# Altium schematic symbol library NXP Semiconductors Cortex-M4.SchLib: 12 symbols (part 3 of 3)
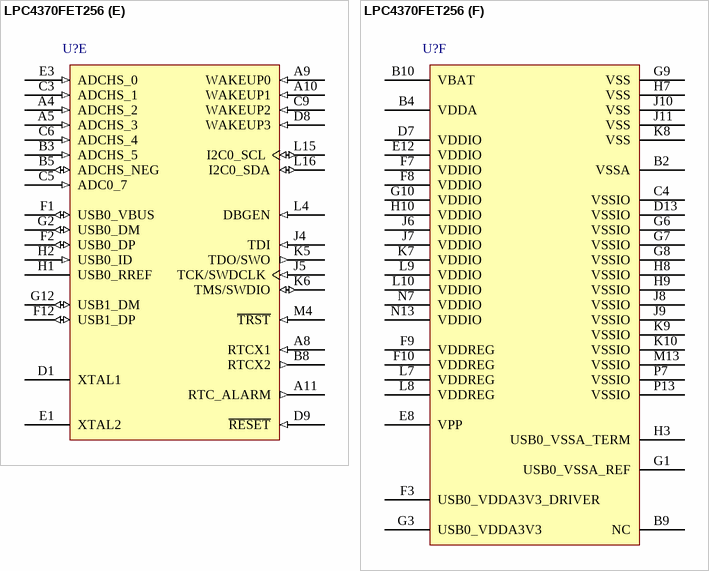
[diagram p14: symbol LPC4370FET256]

## LPC4370FET256
designator U?
32-bit ARM Cortex-M4 + 2 x M0 MCU, 282 kB SRAM, Ethernet, Two HS USBs, 80 Msps 12-bit ADC, Configurable Peripherals, -40 to 85 degC, 256-Pin LBGA (SOT740-2), Pb-Free, Tray; Manufacturer: NXP Semiconductors; Fmax: 204 MHz; SRAM: 282 kB; Ethernet: 1; USB: 2; Number of I/O: 164; Pb-Free: TRUE; DatasheetVersion: Rev. 2; PackageVersion: 38565; PackageReference: SOT740-2; PackageDescription: 256-Ball Ball Grid Array , Body 17 x 17 mm, Pitch 1 mm; Core: Cortex-M4; LCD: 1; CAN: 2; Junction Temperature: -40 to 85 degC; Packing: Tray; Mounting Technology: Surface Mount; ComponentLink1Description: Manufacturer URL; ComponentLink1URL: http://www.nxp.com/; ComponentLink2Description: Datasheet; ComponentLink2URL: http://www.nxp.com/documents/data_sheet/LPC4370.pdf; ComponentLink3Description: Package Specification; ComponentLink3URL: http://www.nxp.com/documents/outline_drawing/sot740-2_po.pdf
footprint SOT740-2 (BGA, 256-Leads, Body 17x17mm, Pitch 1mm)
part A pins: A1 P4_1/GPIO2[1]/CTOUT_1/LCD_VD0/LCD_VD19/U3_TXD/ENET_COL/ADC0_1  (io), A15 P3_4/GPIO1[14]/SPIFI_SIO3/U1_TXD/I2S0_TX_WS/I2S1_RX_SDA/LCD_VD13 (io), B1 P4_4/GPIO2[4]/CTOUT_2/LCD_VD1/LCD_VD20/U3_DIR/SGPIO10/DAC (io), B13 P3_6/GPIO0[6]/SPI_MISO/SSP0_SSEL/SPIFI_MISO/SSP0_MISO (io), B14 P3_3/SPI_SCK/SSP0_SCK/SPIFI_SCK/CGU_OUT1/I2S0_TX_MCLK/I2S1_TX_SCK (io), C1 P4_6/GPIO2[6]/CTOUT_4/LCD_ENAB/LCDM/SGPIO12 (io), C2 P4_3/GPIO2[3]/CTOUT_3/LCD_VD2/LCD_VD21/U3_BAUD/SGPIO9/ADC0_0 (io), C10 P3_8/SPI_SSEL/SSP0_MOSI/SPIFI_CS/GPIO5[11]/SSP0_SSEL (io), C11 P3_7/SPI_MOSI/SSP0_MISO/SPIFI_MOSI/GPIO5[10]/SSP0_MOSI (io), C12 P3_5/GPIO1[15]/SPIFI_SIO2/U1_RXD/I2S0_TX_SDA/I2S1_RX_WS/LCD_VD12 (io), C16 P2_13/GPIO1[13]/CTIN_4/EMC_A4/U2_DIR (io), D2 P4_5/GPIO2[5]/CTOUT_5/LCD_FP/SGPIO11 (io), D3 P4_2/GPIO2[2]/CTOUT_0/LCD_VD3/LCD_VD12/U3_RXD/SGPIO8 (io), D5 P4_0/GPIO2[0]/MCOA0/NMI/LCD_VD13/U3_UCLK (io), E2 P4_8/CTIN_5/LCD_VD9/GPIO5[12]/LCD_VD22/CAN1_TD/SGPIO13 (io), E15 P2_12/GPIO1[12]/CTOUT_4/EMC_A3/U2_UCLK (io), F11 P3_2/I2S0_TX_SDA/I2S0_RX_SDA/CAN0_TD/USB1_IND0/GPIO5[9]/LCD_VD14 (io), F13 P3_0/I2S0_RX_SCK/I2S0_RX_MCLK/I2S0_TX_SCK/I2S0_TX_MCLK/SSP0_SCK (io), F16 P2_11/GPIO1[11]/CTOUT_5/U2_RXD/EMC_A2 (io), G11 P3_1/I2S0_TX_WS/I2S0_RX_WS/CAN0_RD/USB1_IND1/GPIO5[8]/LCD_VD15 (io), G16 P2_10/GPIO0[14]/CTOUT_2/U2_TXD/EMC_A1 (io), H4 P4_7/LCD_DCLK/GP_CLKIN/I2S1_TX_SCK/I2S0_TX_SCK (io), H14 P2_7/GPIO0[7]/CTOUT_1/U3_UCLK/EMC_A9/T3_MAT3 (io), H16 P2_9/GPIO1[10]/CTOUT_3/U3_BAUD/EMC_A0 (io), J12 P2_3/SGPIO12/I2C1_SDA/U3_TXD/CTIN_1/GPIO5[3]/T3_MAT0/USB0_PWR_EN (io), J16 P2_8/SGPIO15/CTOUT_0/U3_DIR/EMC_A8/GPIO5[7] (io), K11 P2_4/SGPIO13/I2C1_SCL/U3_RXD/CTIN_0/GPIO5[4]/T3_MAT1/USB0_PWR_FAULT (io), K14 P2_5/SGPIO14/CTIN_2/USB1_VBUS/ADCTRIG1/GPIO5[5]/T3_MAT2/USB0_IND0 (io), K16 P2_6/SGPIO7/U0_DIR/EMC_A10/USB0_IND0/GPIO5[6]/CTIN_7/T3_CAP3 (io), L2 P4_9/CTIN_6/LCD_VD11/GPIO5[13]/LCD_VD15/CAN1_RD/SGPIO14 (io), L3 P0_0/GPIO0[0]/SSP1_MISO/ENET_RXD1/SGPIO0/I2S0_TX_WS/I2S1_TX_WS (io), M2 P0_1/GPIO0[1]/SSP1_MOSI/ENET_COL/SGPIO1/ENET_TX_EN/I2S1_TX_SDA (io), M3 P4_10/CTIN_2/LCD_VD10/GPIO5[14]/LCD_VD14/SGPIO15 (io), M7 P1_16/GPIO0[3]/U2_RXD/SGPIO3/ENET_CRS/T0_MAT0/ENET_RX_DV (io), M8 P1_17/GPIO0[12]/U2_UCLK/ENET_MDIO/T0_CAP3/CAN1_TD/SGPIO11 (io), M10 P1_20/GPIO0[15]/SSP1_SSEL/ENET_TXD1/T0_CAP2/SGPIO13  (io), M11 P1_19/ENET_TX_CLK (ENET_REF_CLK)/SSP1_SCK/CLKOUT/I2S0_RX_MCLK/I2S1_TX_SCK (io), M15 P2_2/SGPIO6/U0_UCLK/EMC_A11/USB0_IND1/GPIO5[2]/CTIN_6/T3_CAP2 (io), N12 P1_18/GPIO0[13]/U2_DIR/ENET_TXD0/T0_MAT3/CAN1_RD/SGPIO12 (io), N15 P2_1/SGPIO5/U0_RXD/EMC_A12/USB0_PWR_FAULT/GPIO5[1]/T3_CAP1 (io), P2 P1_0/GPIO0[4]/CTIN_3/EMC_A5/SSP0_SSEL/SGPIO7 (io), P5 P1_3/GPIO0[10]/CTOUT_8/SGPIO10/~{EMC_OE}/USB0_IND1/SSP1_MISO/SD_RST (io), R2 P1_1/GPIO0[8]/CTOUT_7/EMC_A6/SGPIO8/SSP0_MISO (io), R3 P1_2/GPIO0[9] /CTOUT_6/EMC_A7/SGPIO9/SSP0_MOSI (io), R5 P1_5/GPIO1[8]/CTOUT_10/~{EMC_CS0}/USB0_PWR_FAULT/SSP1_SSEL/SGPIO15/SD_POW (io), R7 P1_8/GPIO1[1]/U1_DTR/CTOUT_12/EMC_D1/SD_VOLT0 (io), R8 P1_10/GPIO1[3]/U1_RI/CTOUT_14/EMC_D3/SD_DAT1 (io), R9 P1_12/GPIO1[5]/U1_DCD/EMC_D5/T0_CAP1/SGPIO8/SD_DAT3 (io), R10 P1_13/GPIO1[6]/U1_TXD/EMC_D6/T0_CAP0/SGPIO9/SD_CD (io), R11 P1_14/GPIO1[7]/U1_RXD/EMC_D7/T0_MAT2/SGPIO10 (io), T3 P1_4/GPIO0[11] /CTOUT_9/SGPIO11/~{EMC_BLS0}/USB0_IND0/SSP1_MOSI/SD_VOLT1 (io), T4 P1_6/GPIO1[9]/CTIN_5/~{EMC_WE}/SGPIO14/SD_CMD (io), T5 P1_7/GPIO1[0]/U1_DSR/CTOUT_13/EMC_D0/USB0_PPWR (io), T7 P1_9/GPIO1[2]/U1_RTS/CTOUT_11/EMC_D2/SD_DAT0  (io), T9 P1_11/GPIO1[4]/U1_CTS/CTOUT_15/EMC_D4/SD_DAT2 (io), T12 P1_15/GPIO0[2]/U2_TXD/SGPIO2/ENET_RXD0/T0_MAT1 (io), T16 P2_0/SGPIO4/U0_TXD/EMC_A13/USB0_PPWR/GPIO5[0]/T3_CAP0/ENET_MDC (io)
part B pins: A7 P7_5/GPIO3[13]/CTOUT_12/LCD_VD8/LCD_VD23/TRACEDATA[1]/ADC0_3  (io), A16 P7_2/GPIO3[10]/CTIN_4/I2S0_TX_SDA/LCD_VD18/LCD_VD6/U2_RXD/SGPIO6 (io), B6 P7_7/GPIO3[15]/CTOUT_8/LCD_PWR/TRACEDATA[3]/ENET_MDC/SGPIO7/ADC1_6 (io), B16 P7_0/GPIO3[8]/CTOUT_14/LCD_LE/SGPIO4 (io), C7 P7_6/GPIO3[14]/CTOUT_11/LCD_LP/TRACEDATA[2] (io), C8 P7_4/GPIO3[12]/CTOUT_13/LCD_VD16/LCD_VD4/TRACEDATA[0]/ADC0_4  (io), C13 P7_3/GPIO3[11]/CTIN_3/LCD_VD17/LCD_VD5 (io), C14 P7_1/GPIO3[9]/CTOUT_15/I2S0_TX_WS/LCD_VD19/LCD_VD7/U2_TXD/SGPIO5  (io), E5 P8_0/GPIO4[0]/USB0_PWR_FAULT/MCI2/SGPIO8/T0_MAT0 (io), G13 PA_4/CTOUT_9/EMC_A23/GPIO5[19] (io), G15 P6_12/GPIO2[8]/CTOUT_7/EMC_DQMOUT0 (io), H5 P8_1/GPIO4[1]/USB0_IND1/MCI1/SGPIO9/T0_MAT1 (io), H11 PA_3/GPIO4[10]/QEI_PHA (io), H12 P6_11/GPIO3[7]/EMC_CKEOUT0/T2_MAT3  (io), H13 P6_8/EMC_A14/SGPIO7/USB0_IND0/GPIO5[16]/T2_MAT1 (io), H15 P6_10/GPIO3[6]/~{MCABORT}/EMC_DQMOUT1 (io), J1 P8_5/GPIO4[5]/USB1_ULPI_D0/LCD_VD6/LCD_VD8/T0_CAP1 (io), J2 P8_4/GPIO4[4]/USB1_ULPI_D1/LCD_VD7/LCD_VD16/T0_CAP0 (io), J3 P8_3/GPIO4[3]/USB1_ULPI_D2/LCD_VD12/LCD_VD19/T0_MAT3 (io), J13 P6_7/EMC_A15/SGPIO6/USB0_IND1/GPIO5[15]/T2_MAT0  (io), J14 PA_1/GPIO4[8]/QEI_IDX/U2_TXD  (io), J15 P6_9/GPIO3[5]/~{EMC_DYCS0}/T2_MAT2 (io), K1 P8_7/GPIO4[7]/USB1_ULPI_STP/LCD_VD4/LCD_PWR/T0_CAP3  (io), K3 P8_6/GPIO4[6]/USB1_ULPI_NXT/LCD_VD5/LCD_LP/T0_CAP2 (io), K4 P8_2/GPIO4[2]/USB0_IND0/MCI0/SGPIO10/T0_MAT2 (io), K15 PA_2/GPIO4[9]/QEI_PHB/U2_RXD (io), L1 P8_8/USB1_ULPI_CLK/CGU_OUT0 /I2S1_TX_MCLK (io), L11 P9_6/GPIO4[11]/MCOB1/USB1_PWR_FAULT/ENET_COL/SGPIO8/U0_RXD (io), L12 PA_0/I2S1_RX_MCLK/CGU_OUT1 (io), L13 P6_2/GPIO3[1]/EMC_CKEOUT1/U0_DIR/I2S0_RX_SDA/T2_CAP1 (io), L14 P6_6/GPIO0[5]/~{EMC_BLS1}/SGPIO5/USB0_PWR_FAULT/T2_CAP3 (io), M6 P9_3/GPIO4[15]/MCOA0/USB1_IND1/ENET_RXD2/SGPIO9/U3_TXD  (io), M9 P9_5/MCOA1/USB1_VBUS_EN/GPIO5[18]/ENET_TXD3/SGPIO3/U0_TXD (io), M12 P6_0/I2S0_RX_MCLK/I2S0_RX_SCK (io), N3 P5_0/GPIO2[9]/MCOB2/EMC_D12/U1_DSR/T1_CAP0 (io), N6 P9_1/GPIO4[13]/MCOA2/I2S0_TX_WS/ENET_RX_ER/SGPIO1/SSP0_MISO (io), N8 P9_2/GPIO4[14]/MCOB2/I2S0_TX_SDA/ENET_RXD3/SGPIO2/SSP0_MOSI (io), N10 P9_4/MCOB0/USB1_IND0/GPIO5[17]/ENET_TXD2/SGPIO4/U3_RXD (io), P3 P5_1/GPIO2[10]/MCI2/EMC_D13/U1_DTR/T1_CAP1 (io), P9 P5_4/GPIO2[13]/MCOB0/EMC_D8/U1_CTS/T1_MAT0 (io), P10 P5_5/GPIO2[14]/MCOA1/EMC_D9/U1_DCD/T1_MAT1 (io), P15 P6_3/GPIO3[2]/USB0_PWR_EN/SGPIO4/~{EMC_CS1}/T2_CAP2  (io), P16 P6_5/GPIO3[4]/CTOUT_6/U0_RXD/~{EMC_RAS} (io), R4 P5_2/GPIO2[11]/MCI1/EMC_D14/U1_RTS/T1_CAP2 (io), R12 P5_7/GPIO2[7]/MCOA2/EMC_D11/U1_RXD/T1_MAT3  (io), R15 P6_1/GPIO3[0]/~{EMC_DYCS1}/U0_UCLK/I2S0_RX_WS/T2_CAP0  (io), R16 P6_4/GPIO3[3]/CTIN_6/U0_TXD/~{EMC_CAS} (io), T1 P9_0/GPIO4[12]/~{MCABORT}/ENET_CRS/SGPIO0/SSP0_SSEL (io), T8 P5_3/GPIO2[12]/MCI0/EMC_D15/U1_RI/T1_CAP3 (io), T13 P5_6/GPIO2[15]/MCOB1/EMC_D10/U1_TXD/T1_MAT2 (io)
part C pins: A2 PF_11/U0_RXD/GPIO7[25]/SD_VOLT2/ADC1_5 (io), A3 PF_10/U0_TXD/GPIO7[24]/SD_WP/ADC0_5 (io), A6 PB_6/USB1_ULPI_D3/LCD_VD13/GPIO5[26]/CTIN_6/LCD_VD19/ADC0_6 (io), A12 PB_5/USB1_ULPI_D4/LCD_VD14/GPIO5[25]/CTIN_7/LCD_PWR (io), A13 PB_3/USB1_ULPI_D6/LCD_VD20/GPIO5[23]/CTOUT_8 (io), A14 PB_1/USB1_ULPI_DIR/LCD_VD22/GPIO5[21]/CTOUT_6 (io), B7 PF_7/U3_BAUD/SSP1_MOSI/TRACEDATA[2]/GPIO7[21]/SGPIO6/I2S1_TX_WS/ADC1_7  (io), B11 PB_4/USB1_ULPI_D5/LCD_VD15/GPIO5[24]/CTIN_5 (io), B12 PB_2/USB1_ULPI_D7/LCD_VD21/GPIO5[22]/CTOUT_7 (io), B15 PB_0/CTOUT_10/LCD_VD23/GPIO5[20] (io), C15 PE_14/~{EMC_DYCS3}/GPIO7[14] (io), D4 PC_0/USB1_ULPI_CLK/ENET_RX_CLK/LCD_DCLK /SD_CLK/ADC1_1 (io), D6 PF_9/U0_DIR/CTOUT_1/GPIO7[23]/SGPIO3/ADC1_2 (io), D10 PF_4/SSP1_SCK/GP_CLKIN/TRACECLK/I2S0_TX_MCLK/I2S0_RX_SCK (io), D11 PF_2/U3_TXD/SSP0_MISO/GPIO7[17]/SGPIO1 (io), D12 PF_0/SSP0_SCK/GP_CLKIN/I2S1_TX_MCLK (io), D15 PE_12/CTOUT_11/U1_RXD/EMC_D31/GPIO7[12] (io), D16 PE_11/CTOUT_12/U1_TXD/EMC_D30/GPIO7[11]  (io), E4 PC_1/USB1_ULPI_D7/U1_RI/ENET_MDC/GPIO6[0]/T3_CAP0/SD_VOLT0 (io), E6 PF_8/U0_UCLK/CTIN_2/TRACEDATA[3]/GPIO7[22]/SGPIO7/ADC0_2 (io), E7 PF_6/U3_DIR/SSP1_MISO/TRACEDATA[1]/GPIO7[20]/SGPIO5/I2S1_TX_SDA/ADC1_3  (io), E9 PF_5/U3_UCLK/SSP1_SSEL/TRACEDATA[0]/GPIO7[19]/SGPIO4/ADC1_4   (io), E10 PF_3/U3_RXD/SSP0_MOSI/GPIO7[18]/SGPIO2  (io), E11 PF_1/SSP0_SSEL/GPIO7[16]/SGPIO0 (io), E13 PE_15/CTOUT_0/I2C1_SCL/EMC_CKEOUT3/GPIO7[15] (io), E14 PE_10/CTIN_3/U1_DTR/EMC_D29/GPIO7[10] (io), E16 PE_9/CTIN_4/U1_DCD/EMC_D28/GPIO7[9] (io), F4 PC_4/USB1_ULPI_D4/ENET_TX_EN/GPIO6[3]/T3_CAP1/SD_DAT0 (io), F5 PC_3/USB1_ULPI_D5/U1_RTS/ENET_TXD3/GPIO6[2]/SD_VOLT1/ADC1_0 (io), F6 PC_2/USB1_ULPI_D6/U1_CTS/ENET_TXD2/GPIO6[1]/SD_RST (io), F14 PE_8/CTOUT_4/U1_DSR/EMC_D27/GPIO7[8] (io), F15 PE_7/CTOUT_5/U1_CTS/EMC_D26/GPIO7[7]  (io), G4 PC_5/USB1_ULPI_D3/ENET_TX_ER/GPIO6[4]/T3_CAP2/SD_DAT1 (io), G5 PC_7/USB1_ULPI_D1/ENET_RXD3/GPIO6[6]/T3_MAT0/SD_DAT3 (io), G14 PE_13/CTOUT_14/I2C1_SDA/EMC_DQMOUT3/GPIO7[13]  (io), H6 PC_6/USB1_ULPI_D2/ENET_RXD2/GPIO6[5]/T3_CAP3/SD_DAT2 (io), K2 PC_9/USB1_ULPI_NXT/ENET_RX_ER/GPIO6[8]/T3_MAT2/SD_POW (io), K12 PE_3/CAN0_TD/ADCTRIG1/EMC_A21/GPIO7[3] (io), K13 PE_4/NMI/EMC_A22/GPIO7[4]  (io), L5 PC_11/USB1_ULPI_DIR/U1_DCD/GPIO6[10]/SD_DAT4 (io), L6 PC_12/U1_DTR/GPIO6[11]/SGPIO11/I2S0_TX_SDA/SD_DAT5  (io), M1 PC_13/U1_TXD/GPIO6[12]/SGPIO12/I2S0_TX_WS/SD_DAT6  (io), M5 PC_10/USB1_ULPI_STP/U1_DSR/GPIO6[9]/T3_MAT3/SD_CMD (io), M14 PE_2/ADCTRIG0/CAN0_RD/EMC_A20/GPIO7[2] (io), M16 PE_6/CTOUT_2/U1_RI/EMC_D25/GPIO7[6] (io), N1 PC_14/U1_RXD/GPIO6[13]/SGPIO13/ENET_TX_ER/SD_DAT7 (io), N2 PD_0/CTOUT_15/EMC_DQMOUT2/GPIO6[14]/SGPIO4 (io), N4 PC_8/USB1_ULPI_D0/ENET_RX_DV/GPIO6[7]/T3_MAT1/SD_CD (io), N9 PD_11/~{EMC_CS3}/GPIO6[25]/USB1_ULPI_D0/CTOUT_14  (io), N11 PD_12/~{EMC_CS2}/GPIO6[26]/CTOUT_10 (io), N14 PE_1/EMC_A19/GPIO7[1]/CAN1_RD  (io), N16 PE_5/CTOUT_3/U1_RTS/EMC_D24/GPIO7[5]  (io), P1 PD_1/EMC_CKEOUT2/GPIO6[15]/SD_POW/SGPIO5 (io), P4 PD_3/CTOUT_6/EMC_D17/GPIO6[17]/SGPIO7 (io), P6 PD_5/CTOUT_9/EMC_D19/GPIO6[19]/SGPIO9 (io), P8 PD_8/CTIN_6/EMC_D22/GPIO6[22]/SGPIO12 (io), P11 PD_10/CTIN_1/~{EMC_BLS3}/GPIO6[24] (io), P14 PE_0/EMC_A18/GPIO7[0]/CAN1_TD (io), R1 PD_2/CTOUT_7/EMC_D16/GPIO6[16]/SGPIO6  (io), R6 PD_6/CTOUT_10/EMC_D20/GPIO6[20]/SGPIO10 (io), R13 PD_14/~{EMC_DYCS2}/GPIO6[28]/CTOUT_11 (io), R14 PD_16/EMC_A16/GPIO6[30]/SD_VOLT2/CTOUT_12 (io), T2 PD_4/CTOUT_8/EMC_D18/GPIO6[18]/SGPIO8 (io), T6 PD_7/CTIN_5/EMC_D21/GPIO6[21]/SGPIO11 (io), T11 PD_9/CTOUT_13/EMC_D23/GPIO6[23]/SGPIO13 (io), T14 PD_13/CTIN_0/~{EMC_BLS2}/GPIO6[27]/CTOUT_13 (io), T15 PD_15/EMC_A17/GPIO6[29]/SD_WP/CTOUT_8  (io)
part D pins: D14 CLK2/EMC_CLK3/CLKOUT/SD_CLK/EMC_CLK23/I2S0_TX_MCLK/I2S1_RX_SCK  (io), N5 CLK0/EMC_CLK0/CLKOUT/SD_CLK/EMC_CLK01/SSP1_SCK/ENET_TX_CLK (ENET_REF_CLK) (io), P12 CLK3/EMC_CLK2/CLKOUT/CGU_OUT1/I2S1_RX_SCK (io), T10 CLK1/EMC_CLK1/CLKOUT/CGU_OUT0/I2S1_TX_MCLK (out)
part E pins: A4 ADCHS_2 (in) "12-bit high-speed ADC input channel 2.", A5 ADCHS_3 (in) "12-bit high-speed ADC input channel 3.", A8 RTCX1 (in) "Input to the RTC 32 kHz ultra-low power oscillator circuit.", A9 WAKEUP0 (in) "External wake-up input; can raise an interrupt and can cause wake-up from any of the low power modes.", A10 WAKEUP1 (in) "External wake-up input; can raise an interrupt and can cause wake-up from any of the low power modes.", A11 RTC_ALARM (out) "RTC controlled output.", B3 ADCHS_5 (in) "12-bit high-speed ADC input channel 5.", B5 ADCHS_NEG (io) "12-bit high-speed ADC reference voltage output or negative differential input.", B8 RTCX2 (out) "Output from the RTC 32 kHz ultra-low power oscillator circuit.", C3 ADCHS_1 (in) "12-bit high-speed ADC input channel 1.", C5 ADC0_7 (in) "10-bit ADC0 input channel 7.", C6 ADCHS_4 (in) "12-bit high-speed ADC input channel 4.", C9 WAKEUP2 (in) "External wake-up input; can raise an interrupt and can cause wake-up from any of the low power modes.", D1 XTAL1 "Input to the oscillator circuit and internal clock generator circuits.", D8 WAKEUP3 (in) "External wake-up input; can raise an interrupt and can cause wake-up from any of the low power modes.", D9 ~{RESET} (in) "External reset input: A LOW-going pulse as short as 50 ns on this pin resets the device, causing I/O ports and peripherals to take on their default states, and processor execution to begin at address 0.", E1 XTAL2 "Output from the oscillator amplifier.", E3 ADCHS_0 (in) "12-bit high-speed ADC input channel 0.", F1 USB0_VBUS (io) "VBUS pin (power on USB cable). This pin includes an internal pull-down resistor of 64 kohm (typical) +/- 16 kohm.", F2 USB0_DP (io) "USB0 bidirectional D+ line.", F12 USB1_DP (io) "USB1 bidirectional D+ line.", G2 USB0_DM (io) "USB0 bidirectional D- line.", G12 USB1_DM (io) "USB1 bidirectional D- line.", H1 USB0_RREF "12.0 kohm (accuracy 1 %) on-board resistor to ground for current reference.", H2 USB0_ID (in) "Indicates to the transceiver whether connected as an A-device (USB0_ID LOW) or B-device (USB0_ID HIGH). For OTG this pin has an internal pull-up resistor.", J4 TDI (in) "Test Data In for JTAG interface.", J5 TCK/SWDCLK (in), K5 TDO/SWO (out), K6 TMS/SWDIO (io), L4 DBGEN (in) "JTAG interface control signal. Also used for boundary scan.", L15 I2C0_SCL (io) "I2C clock input/output. Open-drain output (for I2C-bus compliance).", L16 I2C0_SDA (io) "I2C data input/output. Open-drain output (for I2C-bus compliance).", M4 ~{TRST} (in) "Test Reset for JTAG interface."
part F pins: B2 VSSA (power) "Analog ground.", B4 VDDA (power) "Analog power supply and 10-bit ADC reference voltage.", B9 NC "n.c.", B10 VBAT (power) "RTC power supply: 3.3 V on this pin supplies power to the RTC.", C4 VSSIO (power) "Ground.", D7 VDDIO (power) "I/O power supply. Tie the VDDREG and VDDIO pins to a common power supply to ensure the same ramp-up time for both supply voltages.", D13 VSSIO (power) "Ground.", E8 VPP (power) "OTP programming voltage.", E12 VDDIO (power) "I/O power supply. Tie the VDDREG and VDDIO pins to a common power supply to ensure the same ramp-up time for both supply voltages.", F3 USB0_VDDA3V3_DRIVER (power) "Separate analog 3.3 V power supply for driver.", F7 VDDIO (power) "I/O power supply. Tie the VDDREG and VDDIO pins to a common power supply to ensure the same ramp-up time for both supply voltages.", F8 VDDIO (power) "I/O power supply. Tie the VDDREG and VDDIO pins to a common power supply to ensure the same ramp-up time for both supply voltages.", F9 VDDREG (power) "Main regulator power supply. Tie the VDDREG and VDDIO pins to a common power supply to ensure the same ramp-up time for both supply voltages.", F10 VDDREG (power) "Main regulator power supply. Tie the VDDREG and VDDIO pins to a common power supply to ensure the same ramp-up time for both supply voltages.", G1 USB0_VSSA_REF (power) "Dedicated clean analog ground for generation of reference currents and voltages.", G3 USB0_VDDA3V3 (power) "USB 3.3 V separate power supply voltage.", G6 VSSIO (power) "Ground.", G7 VSSIO (power) "Ground.", G8 VSSIO (power) "Ground.", G9 VSS (power) "Ground.", G10 VDDIO (power) "I/O power supply. Tie the VDDREG and VDDIO pins to a common power supply to ensure the same ramp-up time for both supply voltages.", H3 USB0_VSSA_TERM (power) "Dedicated analog ground for clean reference for termination resistors.", H7 VSS (power) "Ground.", H8 VSSIO (power) "Ground.", H9 VSSIO (power) "Ground.", H10 VDDIO (power) "I/O power supply. Tie the VDDREG and VDDIO pins to a common power supply to ensure the same ramp-up time for both supply voltages.", J6 VDDIO (power) "I/O power supply. Tie the VDDREG and VDDIO pins to a common power supply to ensure the same ramp-up time for both supply voltages.", J7 VDDIO (power) "I/O power supply. Tie the VDDREG and VDDIO pins to a common power supply to ensure the same ramp-up time for both supply voltages.", J8 VSSIO (power) "Ground.", J9 VSSIO (power) "Ground.", J10 VSS (power) "Ground.", J11 VSS (power) "Ground.", K7 VDDIO (power) "I/O power supply. Tie the VDDREG and VDDIO pins to a common power supply to ensure the same ramp-up time for both supply voltages.", K8 VSS (power) "Ground.", K9 VSSIO (power) "Ground.", K10 VSSIO (power) "Ground.", L7 VDDREG (power) "Main regulator power supply. Tie the VDDREG and VDDIO pins to a common power supply to ensure the same ramp-up time for both supply voltages.", L8 VDDREG (power) "Main regulator power supply. Tie the VDDREG and VDDIO pins to a common power supply to ensure the same ramp-up time for both supply voltages.", L9 VDDIO (power) "I/O power supply. Tie the VDDREG and VDDIO pins to a common power supply to ensure the same ramp-up time for both supply voltages.", L10 VDDIO (power) "I/O power supply. Tie the VDDREG and VDDIO pins to a common power supply to ensure the same ramp-up time for both supply voltages.", M13 VSSIO (power) "Ground.", N7 VDDIO (power) "I/O power supply. Tie the VDDREG and VDDIO pins to a common power supply to ensure the same ramp-up time for both supply voltages.", N13 VDDIO (power) "I/O power supply. Tie the VDDREG and VDDIO pins to a common power supply to ensure the same ramp-up time for both supply voltages.", P7 VSSIO (power) "Ground.", P13 VSSIO (power) "Ground."